# EAGLE library part AD8421 (library analog-devices-jqi)
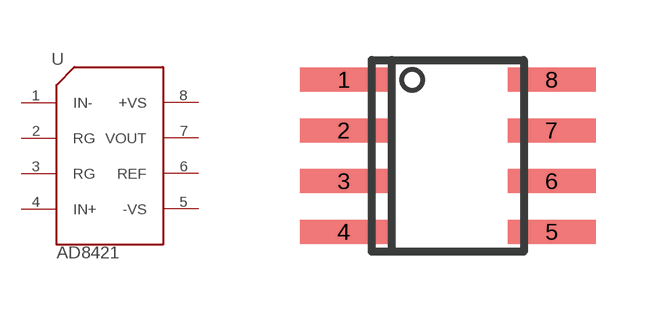
[diagram p0: symbol with the pads of SOIC-8; footprint SOIC-8]

Designator prefix U

## AD8421  [SOIC-8]
1  IN-
2  RG
3  RG
4  IN+
5  -VS
6  REF
7  VOUT
8  +VS

## Footprint SOIC-8 (pad centres in mm)
smd 2.2 x 0.6: 1 -2.6,1.905; 2 -2.6,0.635; 3 -2.6,-0.635; 4 -2.6,-1.905; 5 2.6,-1.905; 6 2.6,-0.635; 7 2.6,0.635; 8 2.6,1.905